# Altium schematic symbol library on-semi-audio.SchLib: 1 symbol
Pins are listed as number, name and electrical type; pins without a type are passive.

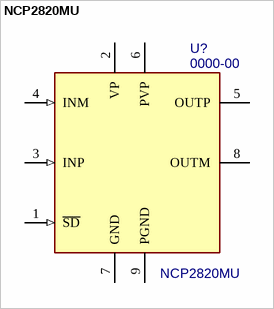
[diagram p0: symbol NCP2820MU]

## NCP2820MU
designator U?, comment 0000-00  value NCP2820MU
2.65 W Filterless Class-D  Audio Power Amplifier; PN: 0000-00; Package: *; ExtraInfo: *
pins: 1 ~{SD} (in), 2 VP (power), 3 INP (in), 4 INM (in), 5 OUTP, 6 PVP (power), 7 GND (power), 8 OUTM, 9 PGND (power)